# Altium footprint library Christmas-2023_Soundboard.PcbLib: 27 footprints (part 2 of 2)
Each footprint in its own frame and in the unit in brackets; x right, y up, seen from the top. Pads: shape width x height; smd on the part's side, far side on the other; paste and mask are expansions set on the pad; w line width, h text height; cw(c..) or ccw(c..) is an arc to the next point about the centre after c.
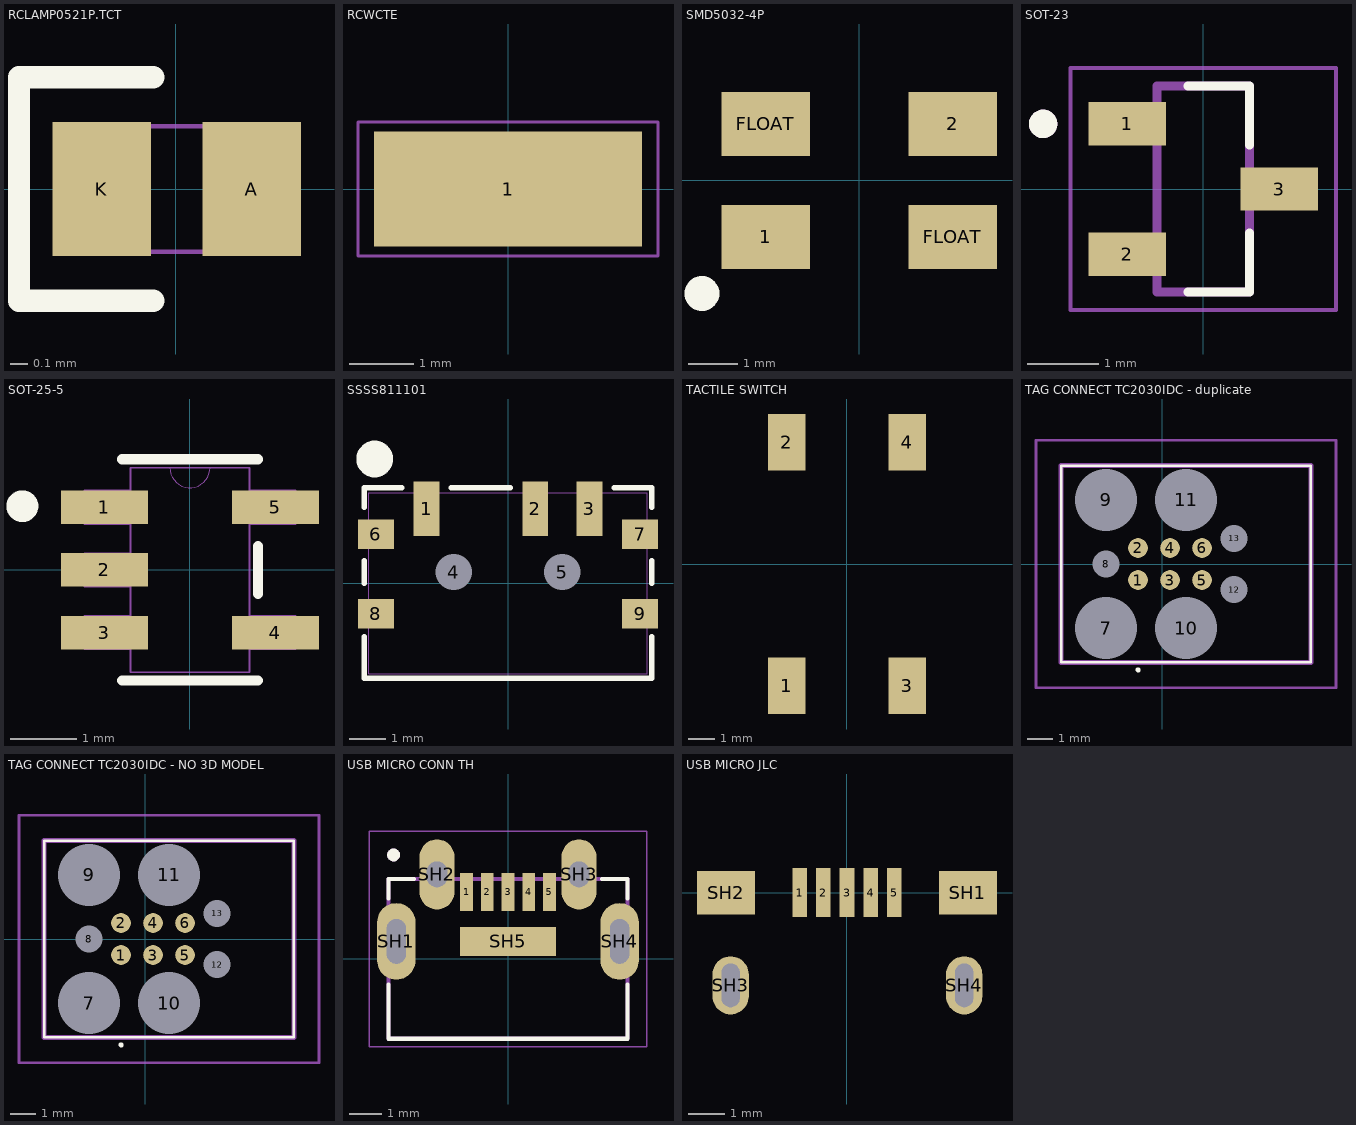
[diagram p1: the footprints below, top view; thin cyan lines are the x and y axes]

## RCLAMP0521P.TCT [mil]
pads (2):
  rect 22x30 smd paste+0 mask+2: A(17,0) K(-16.5,0)
Top Overlay:
  lines w5: -5,-25 -35,-25 -35,25 -5,25
Mechanical 13:
  lines w1: 21.5,-14 -21.5,-14 -21.5,14 21.5,14 ; 25.5,-14 25.5,14
3D body "CR_RCLAMP05_SEM.step": height 22.09, standoff 0, extent -21.5,-14.02 21.5,14.02

## RCWCTE [mm]
height 2
pads (1):
  rect 4.2x1.8 smd: 1(0,0)
Mechanical 13:
  lines w0.127: -1.6,-0.8 -1.6,0.8 1.6,0.8 1.6,-0.8 -1.6,-0.8
Mechanical 15:
  lines w0.05: -2.35,-1.05 -2.35,1.05 2.35,1.05 2.35,-1.05 -2.35,-1.05
3D body "step_temp.STEP": height 2.01, standoff 0, extent -1.6,-0.8 1.6,0.8

## SMD5032-4P [mm]
pads (4):
  rect 1.8x1.3 smd: 1(-1.9,-1.15) 2(1.9,1.15) FLOAT(-1.9,1.15) FLOAT(1.9,-1.15)
Top Overlay:
  circle w0.508: c-3.2,-2.3 r0.1
3D body "ECS-327MVATX-5-CN-TR.STEP": height 1.2, standoff 0, extent -1.6,-1.2 1.6,1.3

## SOT-23 [mm]
pads (3):
  rect 1.09x0.61 smd: 1(-1.07,0.915) 2(-1.07,-0.915) 3(1.07,0)
Top Overlay:
  circle w0.2: c-2.25,0.915 r0.1
  lines w0.127: -0.212,-1.45 0.65,-1.45 0.65,-0.619 ; -0.212,1.45 0.65,1.45 0.65,0.619
Mechanical 13:
  circle w0.2: c-2.25,0.915 r0.1
  lines w0.127: -0.65,-1.45 0.65,-1.45 0.65,1.45 -0.65,1.45 -0.65,-1.45
Mechanical 15:
  lines w0.05: -1.865,-1.7 1.865,-1.7 1.865,1.7 -1.865,1.7 -1.865,-1.7
3D body "step_temp.STEP": height 1.2, standoff 0, extent -1.2,-1.45 1.2,1.45

## SOT-25-5 [mil]
pads (5):
  rect 52x20 smd paste+0: 1(-51,37.4) 2(-51,0) 3(-51,-37.4) 4(51,-37.4) 5(51,37.4)
Top Overlay:
  circle w15: c-100,38 r2
  lines w6: -40.5,-66 40.5,-66 ; -40.5,66 40.5,66 ; 40.5,-14.3 40.5,14.3
Mechanical 13:
  lines w0: -12,61 ccw(c0,61) 12,61
  lines w1: -63,-47.4 -35.5,-47.4 -35.5,-27.4 -63,-27.4 -63,-47.4 ; -63,-10 -35.5,-10 -35.5,10 -63,10 -63,-10 ; -63,27.4 -35.5,27.4 -35.5,47.4 -63,47.4 -63,27.4 ; -35.5,-61 -35.5,61 35.5,61 35.5,-61 -35.5,-61 ; 35.5,-47.4 63,-47.4 63,-27.4 35.5,-27.4 35.5,-47.4 ; 35.5,27.4 63,27.4 63,47.4 35.5,47.4 35.5,27.4
3D body "SOT-25_TOR.step": height 51.1, standoff 0, extent -55,-57.01 55,57.01

## SSSS811101 [mil] "JLCPCB"
pads (9):
  rect 28x59 smd paste+0: 1(-88.58,80.78) 2(29.53,80.78) 3(88.58,80.78)
  round 37 / inner round 60 / far side round 37 hole 39.37 unplated paste-99999 mask-18.5: 4(-59.06,11.89) 5(59.06,11.89)
  rect 39x32 smd: 6(-143.7,53.22) 7(143.7,53.22) 8(-143.7,-33.39) 9(143.7,-33.39)
Top Overlay:
  circle w20: c-145,135 r10
  lines w6: -156.5,-58.55 -156.5,-103.5 156.5,-103.5 156.5,-58.55 ; -156.5,-0.35 -156.5,24.12 ; -156.5,82.32 -156.5,103.5 -115.68,103.5 ; -61.48,103.5 2.43,103.5 ; 115.68,103.5 156.5,103.5 156.5,82.32 ; 156.5,-0.35 156.5,24.12
Mechanical 13:
  lines w1: -151.5,-98.5 -151.5,98.5 151.5,98.5 151.5,-98.5 -151.5,-98.5
3D body "CUS-12TB.step": height 55.12, standoff -19.68, extent -151.57,-97.24 151.57,99.61

## TACTILE SWITCH [mm] "From Sinking clock brain PCB"
pads (4):
  rect 1.4x2.1 smd: 1(-2.25,-4.55) 2(-2.25,4.55) 3(2.25,-4.55) 4(2.25,4.55)
3D body "TL3301BF160QG--3DModel-STEP-520916.STEP": height 9.55, standoff -0.03, extent -3.036,-5.022 2.964,4.978

## TAG CONNECT TC2030IDC - duplicate [mil]
pads (13):
  round 30.83 smd: 1(-37.52,-25) 2(-37.52,25) 3(12.48,-25) 4(12.48,25) 5(62.52,-25) 6(62.52,25)
  round 48.25 hole 96.5 unplated: 7(-87.52,-100) 9(-87.52,100) 10(37.48,-100) 11(37.48,100)
  round 21 hole 42.01 unplated: 8(-87.52,0) 12(112.48,-40) 13(112.48,40)
Top Overlay:
  lines w3.94: -157.48,-153.54 -157.48,153.54 232.28,153.54 232.28,-153.54 -157.48,-153.54 ; -39.37,-165.35 ccw(c-37.4,-165.35) -35.43,-165.35 ccw(c-37.4,-165.35) -39.37,-165.35
Mechanical 13:
  lines w7.87: -157.48,-153.54 -157.48,153.54 232.28,153.54 232.28,-153.54 -157.48,-153.54
Mechanical 15:
  lines w3.94: -196.85,-192.91 -196.85,192.91 271.65,192.91 271.65,-192.91 -196.85,-192.91
3D body "TC2030-IDC.stp": height 5919.63, standoff -127.52, extent -361.22,-204.09 208.78,215.91

## TAG CONNECT TC2030IDC - NO 3D MODEL [mil]
pads (13):
  round 30.83 smd: 1(-37.52,-25) 2(-37.52,25) 3(12.48,-25) 4(12.48,25) 5(62.52,-25) 6(62.52,25)
  round 48.25 hole 96.5 unplated: 7(-87.52,-100) 9(-87.52,100) 10(37.48,-100) 11(37.48,100)
  round 21 hole 42.01 unplated: 8(-87.52,0) 12(112.48,-40) 13(112.48,40)
Top Overlay:
  lines w3.94: -157.48,-153.54 232.28,-153.54 232.28,153.54 -157.48,153.54 -157.48,-153.54 ; -39.37,-165.35 cw(c-37.4,-165.35) -35.43,-165.35 cw(c-37.4,-165.35) -39.37,-165.35
Mechanical 13:
  lines w7.87: -157.48,-153.54 232.28,-153.54 232.28,153.54 -157.48,153.54 -157.48,-153.54
Mechanical 15:
  lines w3.94: -196.85,-192.91 271.65,-192.91 271.65,192.91 -196.85,192.91 -196.85,-192.91

## USB MICRO CONN TH [mm] "CUI_UJ2-MIBH2-4-SMT-TR"
pads (10):
  rect 0.4x1.2 smd: 1(-1.3,2.1) 2(-0.65,2.1) 3(0,2.1) 4(0.65,2.1) 5(1.3,2.1)
  oval 1.2x2.4 hole 0.6 slot 1.4 at 90 deg: SH1(-3.5,0.55) SH4(3.5,0.55)
  oval 1.1x2.2 hole 0.65 slot 0.8 at 90 deg: SH2(-2.225,2.65) SH3(2.225,2.65)
  rect 3x0.9 smd: SH5(0,0.55)
Top Overlay:
  circle w0.2: c-3.586,3.259 r0.1
  lines w0.127: -3.75,-0.8 -3.75,-2.5 3.75,-2.5 3.75,-0.8 ; -3.75,1.9 -3.75,2.5 -2.95,2.5 ; 2.95,2.5 3.75,2.5 3.75,1.9
Mechanical 13:
  circle w0.2: c-3.586,3.259 r0.1
  lines w0.127: -3.75,-2.5 3.75,-2.5 3.75,2.5 -3.75,2.5 -3.75,-2.5
Mechanical 15:
  lines w0.05: -4.35,-2.75 4.35,-2.75 4.35,4 -4.35,4 -4.35,-2.75
3D body "UJ2-MIBH2-4-SMT-TR.stp": height 2.77, standoff -0.64, extent -3.741,-2.413 3.759,2.882

## USB MICRO JLC [mm] "UA0507065250-037-06"
pads (9):
  rect 0.4x1.35 smd mask+0.05: 1(-1.3,0) 2(-0.65,0) 3(0,0) 4(0.65,0) 5(1.3,0)
  rect 1.6x1.2 smd: SH1(3.327,0) SH2(-3.327,0)
  oval 1x1.6 hole 0.5 slot 1.2 at 90 deg: SH3(-3.202,-2.55) SH4(3.225,-2.55)
3D body "1050170001--3DModel-STEP-1.STEP": height 2.75, standoff -0.73, extent -4,-5 4,0.4